# Altium footprint library MAIN_PCH.PcbLib: 24 footprints (part 1 of 2)
Each footprint in its own frame and in the unit in brackets; x right, y up, seen from the top. Pads: shape width x height; smd on the part's side, far side on the other; paste and mask are expansions set on the pad; w line width, h text height; cw(c..) or ccw(c..) is an arc to the next point about the centre after c.
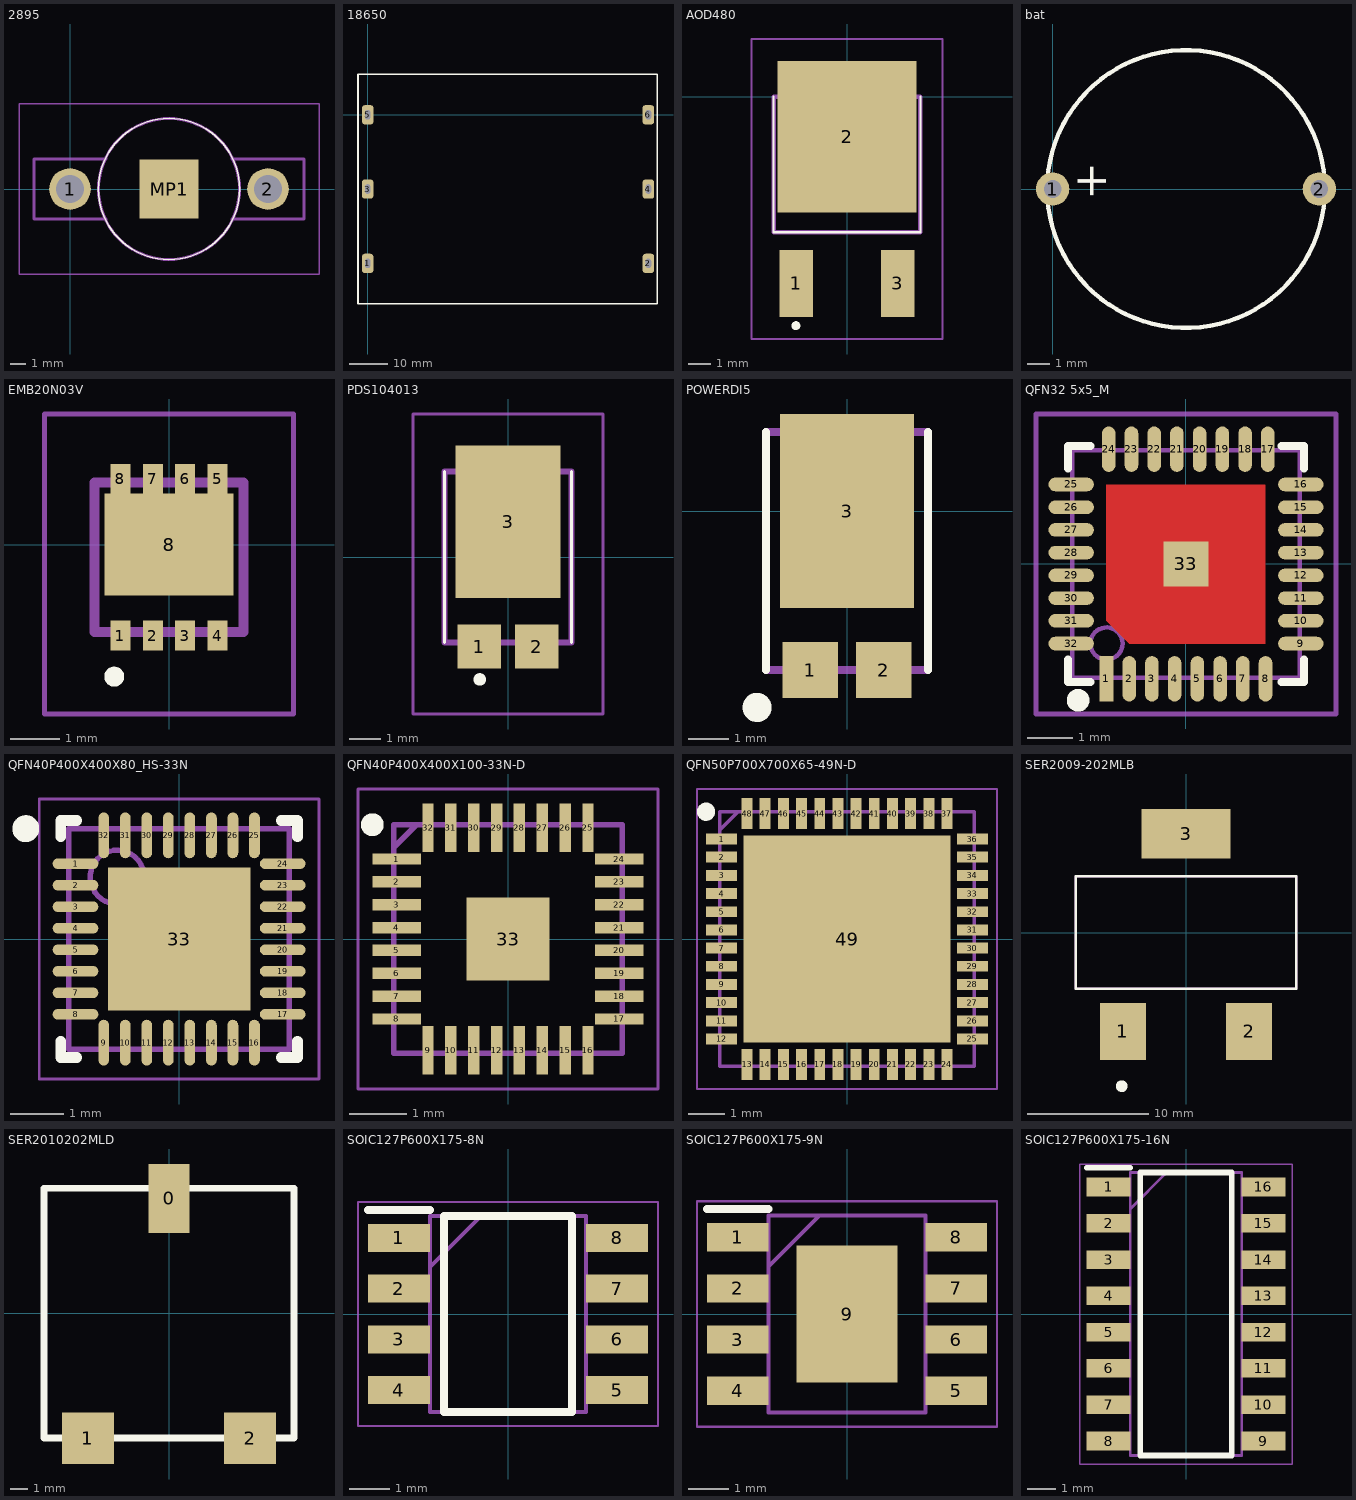
[diagram p0: the footprints below, top view; thin cyan lines are the x and y axes]

## 2895 [mm]
pads (3):
  round 2.775 hole 1.85: 1(0,0) 2(13.2,0)
  rect 3.96x3.96 smd: MP1(6.6,0)
Top Overlay:
  lines w0.1: 6.6,-4.7 cw(c6.6,0) 6.6,4.7 cw(c6.6,0) 6.6,-4.7
Mechanical 13:
  lines w0.2: 2.4,-2 -2.4,-2 -2.4,2 2.4,2 ; 10.8,-2 15.6,-2 15.6,2 10.8,2 ; 6.6,-4.7 cw(c6.6,0) 6.6,4.7 cw(c6.6,0) 6.6,-4.7
Mechanical 15:
  lines w0.1: -3.4,-5.7 16.6,-5.7 16.6,5.7 -3.4,5.7 -3.4,-5.7

## 18650 [mm]
pads (6):
  rrect50% 3x5 hole 2.4 slot 1.38 at 0 deg paste+0: 1(0,-38.6) 2(72.93,-38.6) 3(0,-19.3) 4(72.93,-19.3) 5(0,0) 6(72.93,0)
Top Overlay:
  lines w0.4: -2.513,-49.083 -2.513,10.517 75.187,10.517 75.187,-49.083 -2.513,-49.083
3D body "BK-18650-PC6.stp": height 21.59, standoff -3.17, extent -2.537,-49.173 75.187,10.517

## AOD480 [mm]
pads (3):
  rect 1.5x3 smd: 1(-2.286,-8.4) 3(2.286,-8.4)
  rect 6.25x6.8 smd: 2(0,-1.8)
Top Overlay:
  lines w0.1: -3.302,0 -3.302,-6 -3.302,-6.096 3.302,-6.096 3.302,0
  lines w0.2: -2.4,-10.3 cw(c-2.3,-10.3) -2.2,-10.3 cw(c-2.3,-10.3) -2.4,-10.3
Mechanical 13:
  lines w0.2: -3.302,-6.096 3.302,-6.096 3.302,0 -3.302,0 -3.302,-6.096
Mechanical 15:
  lines w0.1: -4.302,-10.9 4.302,-10.9 4.302,2.6 -4.302,2.6 -4.302,-10.9

## bat [mm]
pads (2):
  round 1.5 hole 0.8 paste+0: 1(0,0) 2(12,0)
Top Overlay:
  circle w0.2: c6,0 r6.25
  text "+" at 2.4,-0.5 h1.5
3D body "k_cr1220_lithium-cell.stp": height 2.05, standoff 0, extent -0.175,-6.275 12.375,6.275

## EMB20N03V [mm]
pads (9):
  rect 0.4x0.6 smd: 1(-0.975,-1.825) 2(-0.325,-1.825) 3(0.325,-1.825) 4(0.975,-1.825) 5(0.975,1.325) 6(0.325,1.325) 7(-0.325,1.325) 8(-0.975,1.325)
  rect 2.6x2.05 smd: 8(0,0)
Top Overlay:
  lines w0.2: -1.1,-2.75 ccw(c-1.1,-2.65) -1.1,-2.55 ccw(c-1.1,-2.65) -1.1,-2.75
Mechanical 13:
  lines w0.2: -1.5,-1.75 1.5,-1.75 1.5,1.25 -1.5,1.25 -1.5,-1.75
Mechanical 15:
  lines w0.1: -2.5,-3.4 2.5,-3.4 2.5,2.625 -2.5,2.625 -2.5,-3.4
3D body "EMB20N03V.stp": height 1, standoff 0, extent -1.5,-2.085 1.5,1.585

## PDS104013 [mm]
pads (3):
  rect 1.39x1.4 smd: 1(-0.92,-2.856) 2(0.92,-2.856)
  rect 3.36x4.86 smd: 3(0,1.126)
Top Overlay:
  lines w0.1: -2.025,-2.725 -2.025,2.725 ; 2.025,-2.725 2.025,2.725
  lines w0.2: -1,-3.9 ccw(c-0.9,-3.9) -0.8,-3.9 ccw(c-0.9,-3.9) -1,-3.9
Mechanical 13:
  lines w0.2: -2.025,-2.725 -2.025,2.725 2.025,2.725 2.025,-2.725 -2.025,-2.725
Mechanical 15:
  lines w0.1: -3.025,-5 -3.025,4.556 3.025,4.556 3.025,-5 -3.025,-5
3D body "PDS560Q-13.stp": height 1.1, standoff 0, extent -2.025,-3.417 2.025,3.22

## POWERDI5 [mm]
pads (3):
  rect 1.39x1.4 smd: 1(-0.92,-3.982) 2(0.92,-3.982)
  rect 3.36x4.86 smd: 3(0,0)
Top Overlay:
  circle w0.4: c-2.251,-4.917 r0.164
  lines w0.2: -2.025,-3.978 -2.025,1.984 ; 2.025,-3.978 2.025,1.984
Mechanical 13:
  lines w0.2: -2.025,-3.978 -2.025,1.984 2.025,1.984 2.025,-3.978 -2.025,-3.978

## QFN32 5x5_M [mm] "32脚，长x宽x高：5x5x0.95mm，脚距：0.5mm"
pads (33):
  rect 0.3x1 smd: 1(-1.751,-2.528)
  oval 0.3x1 smd: 2(-1.25,-2.528) 3(-0.75,-2.528) 4(-0.25,-2.528) 5(0.25,-2.528) 6(0.75,-2.528) 7(1.25,-2.528) 8(1.75,-2.528) 17(1.8,2.528) 18(1.3,2.528) 19(0.8,2.528) 20(0.3,2.528) 21(-0.2,2.528) 22(-0.7,2.528) 23(-1.2,2.528) 24(-1.7,2.528)
  oval 1x0.3 smd: 9(2.528,-1.75) 10(2.528,-1.25) 11(2.528,-0.75) 12(2.528,-0.25) 13(2.528,0.25) 14(2.528,0.75) 15(2.528,1.25) 16(2.528,1.75) 25(-2.528,1.75) 26(-2.528,1.25) 27(-2.528,0.75) 28(-2.528,0.25) 29(-2.528,-0.25) 30(-2.528,-0.75) 31(-2.528,-1.25) 32(-2.528,-1.75)
  rect 1x1 smd: 33(0,0)
Top Layer:
  region: -1.75,1.75 1.75,1.75 1.75,-1.75 -1.25,-1.75 -1.75,-1.25
Top Overlay:
  circle w0.25: c-2.375,-3 r0.125
  lines w0.178: -2.6,-2.1 -2.6,-2.6 -2.1,-2.6 ; -2.6,2.1 -2.6,2.6 -2.1,2.6 ; 2.1,-2.6 2.6,-2.6 2.6,-2.1 ; 2.1,2.6 2.6,2.6 2.6,2.1
Mechanical 13:
  circle w0.1: c-1.75,-1.75 r0.354
  lines w0.1: 2.501,-2.501 -2.501,-2.501 -2.501,2.501 2.5,2.501 2.5,-2.501 ; 2.5,-2.501 2.501,-2.501
Mechanical 15:
  circle w0.05: c0,0 r0.35
  lines w0.05: -0.5,0 0.5,0 ; 0,-0.5 0,0.5
  lines w0.1: -3.302,-3.302 3.302,-3.302 3.302,3.302 -3.302,3.302 -3.302,-3.302
3D body "QFN32 5x5.STEP": height 0.93, standoff 0, extent -2.501,-2.501 2.501,2.501

## QFN40P400X400X80_HS-33N [mm] "QFN, 32-Leads, Body 4.00x4.00mm, Pitch 0.40mm, Thermal Pad 2.65x2.65mm, IPC Medium Density"
height 0.8
pads (33):
  oval 0.85x0.2 smd: 1(-1.925,1.4) 2(-1.925,1) 3(-1.925,0.6) 4(-1.925,0.2) 5(-1.925,-0.2) 6(-1.925,-0.6) 7(-1.925,-1) 8(-1.925,-1.4) 17(1.925,-1.4) 18(1.925,-1) 19(1.925,-0.6) 20(1.925,-0.2) 21(1.925,0.2) 22(1.925,0.6) 23(1.925,1) 24(1.925,1.4)
  oval 0.2x0.85 smd: 9(-1.4,-1.925) 10(-1,-1.925) 11(-0.6,-1.925) 12(-0.2,-1.925) 13(0.2,-1.925) 14(0.6,-1.925) 15(1,-1.925) 16(1.4,-1.925) 25(1.4,1.925) 26(1,1.925) 27(0.6,1.925) 28(0.2,1.925) 29(-0.2,1.925) 30(-0.6,1.925) 31(-1,1.925) 32(-1.4,1.925)
  rect 2.65x2.65 smd: 33(0,0)
Top Overlay:
  circle w0.25: c-2.85,2.05 r0.125
  lines w0.2: -2.2,-1.9 -2.2,-2.2 -1.9,-2.2 ; -2.2,1.9 -2.2,2.2 -1.9,2.2 ; 1.9,-2.2 2.2,-2.2 2.2,-1.9 ; 1.9,2.2 2.2,2.2 2.2,1.9
Assembly Top:
  circle w0.1: c-1.15,1.15 r0.5
  lines w0.1: -2.05,-2.05 2.05,-2.05 2.05,2.05 -2.05,2.05 -2.05,-2.05
Courtyard Top:
  lines w0.05: -2.6,-2.6 2.6,-2.6 2.6,2.6 -2.6,2.6 -2.6,-2.6
  lines w0.1: -0.5,0 0.5,0 ; 0,-0.5 0,0.5
3D body "QFN40P400X400X80_HS-33N.step": height 0.8, standoff 0, extent -2.07,-2.07 2.07,2.07

## QFN40P400X400X100-33N-D [mm]
pads (33):
  rect 0.85x0.2 smd: 1(-1.95,1.4) 2(-1.95,1) 3(-1.95,0.6) 4(-1.95,0.2) 5(-1.95,-0.2) 6(-1.95,-0.6) 7(-1.95,-1) 8(-1.95,-1.4) 17(1.95,-1.4) 18(1.95,-1) 19(1.95,-0.6) 20(1.95,-0.2) 21(1.95,0.2) 22(1.95,0.6) 23(1.95,1) 24(1.95,1.4)
  rect 0.2x0.85 smd: 9(-1.4,-1.95) 10(-1,-1.95) 11(-0.6,-1.95) 12(-0.2,-1.95) 13(0.2,-1.95) 14(0.6,-1.95) 15(1,-1.95) 16(1.4,-1.95) 25(1.4,1.95) 26(1,1.95) 27(0.6,1.95) 28(0.2,1.95) 29(-0.2,1.95) 30(-0.6,1.95) 31(-1,1.95) 32(-1.4,1.95)
  rect 1.45x1.45 smd: 33(0,0)
Top Overlay:
  circle w0.2: c-2.375,2 r0.1
Mechanical 13:
  lines w0.1: -2,1.6 -1.6,2 ; -2,-2 -2,2 2,2 2,-2 -2,-2
Mechanical 15:
  lines w0.05: -2.625,-2.625 -2.625,2.625 2.625,2.625 2.625,-2.625 -2.625,-2.625
3D body "BQ4050RSMR.stp": height 1, standoff 0, extent -2.05,-2.05 2.05,2.05

## QFN50P700X700X65-49N-D [mm]
pads (49):
  rect 0.85x0.3 smd: 1(-3.45,2.75) 2(-3.45,2.25) 3(-3.45,1.75) 4(-3.45,1.25) 5(-3.45,0.75) 6(-3.45,0.25) 7(-3.45,-0.25) 8(-3.45,-0.75) 9(-3.45,-1.25) 10(-3.45,-1.75) 11(-3.45,-2.25) 12(-3.45,-2.75) 25(3.45,-2.75) 26(3.45,-2.25) 27(3.45,-1.75) 28(3.45,-1.25) 29(3.45,-0.75) 30(3.45,-0.25) 31(3.45,0.25) 32(3.45,0.75) 33(3.45,1.25) 34(3.45,1.75) 35(3.45,2.25) 36(3.45,2.75)
  rect 0.3x0.85 smd: 13(-2.75,-3.45) 14(-2.25,-3.45) 15(-1.75,-3.45) 16(-1.25,-3.45) 17(-0.75,-3.45) 18(-0.25,-3.45) 19(0.25,-3.45) 20(0.75,-3.45) 21(1.25,-3.45) 22(1.75,-3.45) 23(2.25,-3.45) 24(2.75,-3.45) 37(2.75,3.45) 38(2.25,3.45) 39(1.75,3.45) 40(1.25,3.45) 41(0.75,3.45) 42(0.25,3.45) 43(-0.25,3.45) 44(-0.75,3.45) 45(-1.25,3.45) 46(-1.75,3.45) 47(-2.25,3.45) 48(-2.75,3.45)
  rect 5.7x5.7 smd: 49(0,0)
Top Overlay:
  circle w0.25: c-3.875,3.5 r0.125
Mechanical 13:
  lines w0.1: -3.5,3 -3,3.5 ; -3.5,-3.5 3.5,-3.5 3.5,3.5 -3.5,3.5 -3.5,-3.5
Mechanical 15:
  lines w0.05: -4.125,-4.125 4.125,-4.125 4.125,4.125 -4.125,4.125 -4.125,-4.125
3D body "STM32F401CCU6.stp": height 0.65, standoff 0, extent -3.55,-3.55 3.55,3.55

## SER2009-202MLB [mm]
pads (3):
  rect 3.81x4.7 smd: 1(-5.205,-8.16) 2(5.205,-8.16)
  rect 7.37x4.06 smd: 3(0,8.16)
Top Overlay:
  circle w0.5: c-5.304,-12.676 r0.231
  lines w0.2: -9.09,-4.635 -9.09,4.635 9.09,4.635 9.09,-4.635 -9.09,-4.635
Mechanical 13:
  lines w0.2: -9.09,-4.635 9.09,-4.635 9.09,4.635 -9.09,4.635 -9.09,-4.635

## SER2010202MLD [mm]
pads (3):
  rect 2.4x4 smd: 0(0,6.66)
  rect 3x3 smd: 1(-4.705,-7.26) 2(4.705,-7.26)
Top Overlay:
  lines w0.4: -7.25,-7.25 -7.25,7.25 7.25,7.25 7.25,-7.25 -7.25,-7.25
3D body "L.STEP": height 8, standoff 0, extent -7.35,-7.35 7.35,7.35

## SOIC127P600X175-8N [mm]
pads (8):
  rect 1.55x0.7 smd: 1(-2.725,1.905) 2(-2.725,0.635) 3(-2.725,-0.635) 4(-2.725,-1.905) 5(2.725,-1.905) 6(2.725,-0.635) 7(2.725,0.635) 8(2.725,1.905)
Top Overlay:
  lines w0.2: -3.5,2.605 -1.95,2.605 ; -1.6,-2.45 -1.6,2.45 1.6,2.45 1.6,-2.45 -1.6,-2.45
Mechanical 13:
  lines w0.1: -1.95,1.18 -0.68,2.45 ; -1.95,-2.45 -1.95,2.45 1.95,2.45 1.95,-2.45 -1.95,-2.45
Mechanical 15:
  lines w0.05: -3.75,-2.8 -3.75,2.8 3.75,2.8 3.75,-2.8 -3.75,-2.8
3D body "XL1509-5.0E1.stp": height 1.75, standoff 0, extent -3,-2.45 3,2.45

## SOIC127P600X175-9N [mm]
pads (9):
  rect 1.525x0.7 smd: 1(-2.712,1.905) 2(-2.712,0.635) 3(-2.712,-0.635) 4(-2.712,-1.905) 5(2.712,-1.905) 6(2.712,-0.635) 7(2.712,0.635) 8(2.712,1.905)
  rect 2.513x3.402 smd: 9(0,0)
Top Overlay:
  lines w0.2: -3.475,2.605 -1.95,2.605
Mechanical 13:
  lines w0.1: -1.95,1.18 -0.68,2.45 ; -1.95,-2.45 -1.95,2.45 1.95,2.45 1.95,-2.45 -1.95,-2.45
Mechanical 15:
  lines w0.05: -3.725,-2.8 -3.725,2.8 3.725,2.8 3.725,-2.8 -3.725,-2.8
3D body "XL7005A.stp": height 1.75, standoff 0, extent -3,-2.45 3,2.45

## SOIC127P600X175-16N [mm]
pads (16):
  rect 1.525x0.65 smd: 1(-2.712,4.445) 2(-2.712,3.175) 3(-2.712,1.905) 4(-2.712,0.635) 5(-2.712,-0.635) 6(-2.712,-1.905) 7(-2.712,-3.175) 8(-2.712,-4.445) 9(2.712,-4.445) 10(2.712,-3.175) 11(2.712,-1.905) 12(2.712,-0.635) 13(2.712,0.635) 14(2.712,1.905) 15(2.712,3.175) 16(2.712,4.445)
Top Overlay:
  lines w0.2: -3.475,5.12 -1.95,5.12 ; -1.6,-4.95 1.6,-4.95 1.6,4.95 -1.6,4.95 -1.6,-4.95
Mechanical 13:
  lines w0.1: -1.95,3.68 -0.68,4.95 ; -1.95,-4.95 1.95,-4.95 1.95,4.95 -1.95,4.95 -1.95,-4.95
Mechanical 15:
  lines w0.05: -3.725,-5.25 3.725,-5.25 3.725,5.25 -3.725,5.25 -3.725,-5.25
3D body "SG3525AP.stp": height 1.75, standoff 0, extent -3,-4.95 3,4.95